# Altium schematic symbol library jst 2pin.SchLib: 1 symbol
Pins are listed as number, name and electrical type; pins without a type are passive.

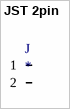
[diagram p0: symbol JST 2pin]

## JST 2pin
designator J
footprint JST XH 2pin
pins: 1, 2